# EAGLE library part MICROSD-BREAKOUT (library MICROSD-BREAKOUT)
MicroSD Card Mo dule Breakout (CATALEX, etc)
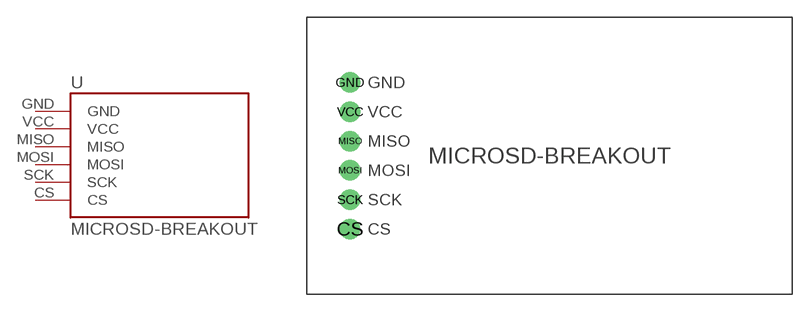
[diagram p0: symbol with the pads of MICROSD-BREAKOUT; footprint MICROSD-BREAKOUT]

Designator prefix U

## MICROSD-BREAKOUT  [MICROSD-BREAKOUT]
CS  CS
GND  GND
MISO  MISO
MOSI  MOSI
SCK  SCK
VCC  VCC

## Footprint MICROSD-BREAKOUT (pad centres in mm)
drill 1 pad 1.778: CS -17.25,-6.35; GND -17.25,6.35; MISO -17.25,1.27; MOSI -17.25,-1.27; SCK -17.25,-3.81; VCC -17.25,3.81